# Altium integrated library General.IntLib: 30 symbols
Pins are listed as number, name and electrical type; pins without a type are passive.

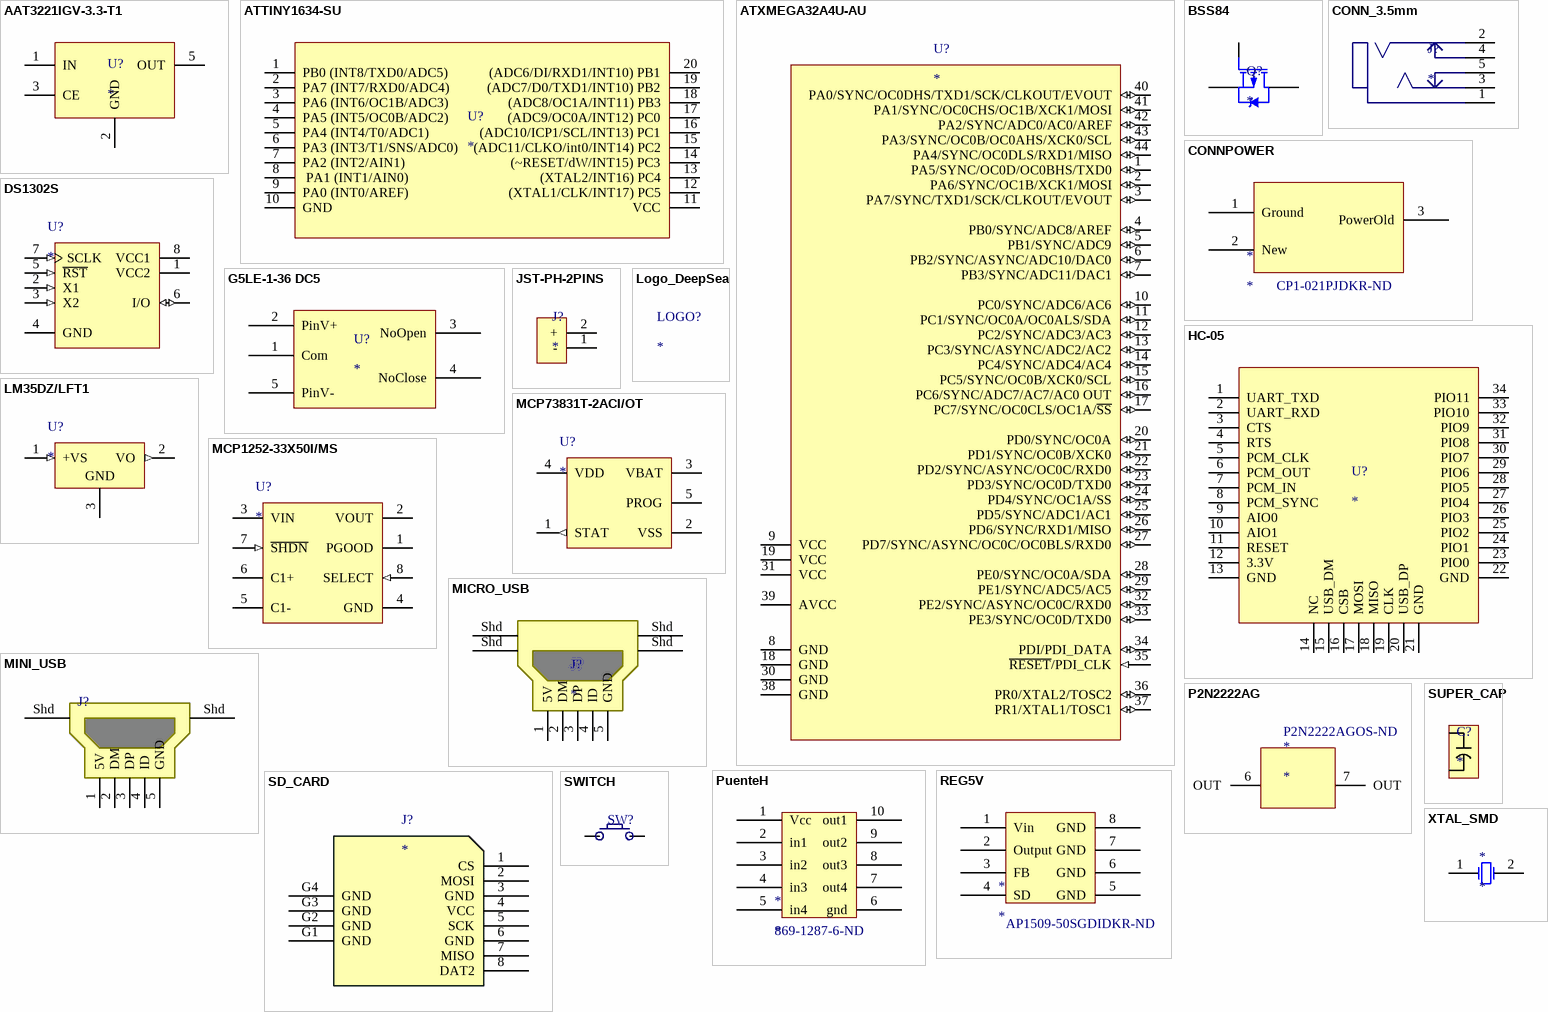
[diagram p0: symbols AAT3221IGV-3.3-T1 to XTAL_SMD]

## AAT3221IGV-3.3-T1
designator U?
IC REG LDO 3.3V 0.15A SOT23-5; Manufacturer: Skyworks Solutions Inc; Manufacturer Part Number: AAT3221IGV-3.3-T1; Regulator Topology: Positive Fixed; Current - Output: 150mA; Voltage - Dropout (Typical): 0.18V @ 100mA; Number of Regulators: 1; Voltage - Input: Up to 5.5V; Supplier 1: Digi-Key; RoHS: RoHS Compliant; Category: Integrated Circuits (ICs); Stock 1: 55137; Pricing 1: 1=0.17, 100=0.15 (USD); Packaging: Cut Tape (CT); Voltage - Output: 3.3V; Current - Limit (Min): -; Operating Temperature: -40°C ~ 85°C; Mounting Type: Surface Mount; Package / Case: SC-74A, SOT-753; Supplier Device Package: SOT-23-5; ComponentLink1URL: http://www.skyworksinc.com/uploads/documents/AAT3221_AAT3222_202251B.pdf; ComponentLink1Description: http://www.skyworksinc.com/uploads/documents/AAT3221_AAT3222_202251B.pdf; Supplier Part Number 1: 863-1491-1-ND
footprint SOT-23-OT5_L (SOT23, 5-Leads, Body 2.9x1.6mm, Pitch 0.95mm, Lead Span 2.7mm, IPC High Density)
footprint SOT-23-OT5_M (SOT23, 5-Leads, Body 2.9x1.6mm, Pitch 0.95mm, Lead Span 2.7mm, IPC Low Density)
footprint SOT-23-OT5_N (SOT23, 5-Leads, Body 2.9x1.6mm, Pitch 0.95mm, Lead Span 2.7mm, IPC Medium Density)
pins: 1 IN, 2 GND, 3 CE, 5 OUT

## ATTINY1634-SU
designator U?
IC MCU 8BIT 16KB FLASH 20SOIC; Manufacturer: Atmel; Manufacturer Part Number: ATTINY1634-SU; Core Processor: AVR; Core Size: 8-Bit; Speed: 12MHz; Connectivity: I²C, SPI, UART/USART, USI; Peripherals: Brown-out Detect/Reset, POR, PWM, WDT; Number of I /O: 18; Program Memory Size: 16KB (16K x 8); EEPROM Size: 256 x 8; RAM Size: 1K x 8; Voltage - Supply (Vcc/Vdd): 1.8 V ~ 5.5 V; Data Converters: A/D 12x10b; Oscillator Type: Internal; Supplier 1: Digi-Key; RoHS: RoHS Compliant; Category: Integrated Circuits (ICs); Stock 1: 0; Pricing 1: 1=1.76, 25=1.12, 100=1 (USD); Packaging: Tube; Program Memory Type: FLASH; Operating Temperature: -40°C ~ 85°C; Package / Case: 20-SOIC (0.295", 7.50mm Width); ComponentLink1URL: http://www.atmel.com/Images/Atmel-8303-8-bit-AVR-Microcontroller-tinyAVR-ATtiny1634_Datasheet_summary.pdf; ComponentLink1Description: http://www.atmel.com/Images/Atmel-8303-8-bit-AVR-Microcontroller-tinyAVR-ATtiny1634_Datasheet_summary.pdf; Supplier Part Number 1: ATTINY1634-SU-ND
footprint SOIC20_L (SOIC, 20-Leads, Body 12,80x7,50mm, Pitch 1,27mm, IPC High Density)
footprint SOIC20_M (SOIC, 20-Leads, Body 12,80x7,50mm, Pitch 1,27mm, IPC Low Density)
footprint SOIC20_N (SOIC, 20-Leads, Body 12,80x7,50mm, Pitch 1,27mm, IPC Medium Density)
pins: 1 PB0 (INT8/TXD0/ADC5) , 2 PA7 (INT7/RXD0/ADC4) , 3 PA6 (INT6/OC1B/ADC3) , 4 PA5 (INT5/OC0B/ADC2) , 5 PA4 (INT4/T0/ADC1), 6 PA3 (INT3/T1/SNS/ADC0) , 7 PA2 (INT2/AIN1) , 8  PA1 (INT1/AIN0), 9 PA0 (INT0/AREF) , 10 GND, 11 VCC, 12 (XTAL1/CLK/INT17) PC5, 13 (XTAL2/INT16) PC4, 14 (~RESET/dW/INT15) PC3, 15 (ADC11/CLKO/int0/INT14) PC2, 16 (ADC10/ICP1/SCL/INT13) PC1, 17 (ADC9/OC0A/INT12) PC0, 18 (ADC8/OC1A/INT11) PB3, 19 (ADC7/D0/TXD1/INT10) PB2, 20 (ADC6/DI/RXD1/INT10) PB1

## ATXMEGA32A4U-AU
designator U?
IC MCU 8BIT 32KB FLASH 44TQFP; Manufacturer: Atmel; Manufacturer Part Number: ATXMEGA32A4U-AU; Core Processor: AVR; Core Size: 8/16-Bit; Speed: 32MHz; Connectivity: I²C, IrDA, SPI, UART/USART, USB; Peripherals: Brown-out Detect/Reset, DMA, POR, PWM, WDT; Number of I /O: 34; Program Memory Size: 32KB (16K x 16); EEPROM Size: 2K x 8; RAM Size: 4K x 8; Voltage - Supply (Vcc/Vdd): 1.6 V ~ 3.6 V; Data Converters: A/D 12x12b, D/A 2x12b; Oscillator Type: Internal; Supplier 1: Digi-Key; RoHS: RoHS Compliant; Category: Integrated Circuits (ICs); Stock 1: 2077; Pricing 1: 1=3.43, 25=2.1548, 100=1.9152 (USD); Packaging: Tray; Program Memory Type: FLASH; Operating Temperature: -40°C ~ 85°C; Package / Case: 44-TQFP; ComponentLink1URL: http://www.atmel.com/Images/Atmel-8387-8-and16-bit-AVR-Microcontroller-XMEGA-A4U_Datasheet.pdf; ComponentLink1Description: http://www.atmel.com/Images/Atmel-8387-8-and16-bit-AVR-Microcontroller-XMEGA-A4U_Datasheet.pdf; Supplier Part Number 1: ATXMEGA32A4U-AU-ND
footprint 44A_L (Thin QFP, 44-Leads, Body 10x10mm, Pitch 0.8mm, IPC High Density)
footprint 44A_M (Thin QFP, 44-Leads, Body 10x10mm, Pitch 0.8mm, IPC Low Density)
footprint 44A_N (Thin QFP, 44-Leads, Body 10x10mm, Pitch 0.8mm, IPC Medium Density)
pins: 1 PA5/SYNC/OC0D/OC0BHS/TXD0 (io), 2 PA6/SYNC/OC1B/XCK1/MOSI (io), 3 PA7/SYNC/TXD1/SCK/CLKOUT/EVOUT (io), 4 PB0/SYNC/ADC8/AREF (io), 5 PB1/SYNC/ADC9 (io), 6 PB2/SYNC/ASYNC/ADC10/DAC0 (io), 7 PB3/SYNC/ADC11/DAC1 (io), 8 GND (power), 9 VCC (power), 10 PC0/SYNC/ADC6/AC6 (io), 11 PC1/SYNC/OC0A/OC0ALS/SDA (io), 12 PC2/SYNC/ADC3/AC3 (io), 13 PC3/SYNC/ASYNC/ADC2/AC2 (io), 14 PC4/SYNC/ADC4/AC4 (io), 15 PC5/SYNC/OC0B/XCK0/SCL (io), 16 PC6/SYNC/ADC7/AC7/AC0 OUT (io), 17 PC7/SYNC/OC0CLS/OC1A/~{SS} (io), 18 GND (power), 19 VCC (power), 20 PD0/SYNC/OC0A (io), 21 PD1/SYNC/OC0B/XCK0 (io), 22 PD2/SYNC/ASYNC/OC0C/RXD0 (io), 23 PD3/SYNC/OC0D/TXD0 (io), 24 PD4/SYNC/OC1A/SS (io), 25 PD5/SYNC/ADC1/AC1 (io), 26 PD6/SYNC/RXD1/MISO (io), 27 PD7/SYNC/ASYNC/OC0C/OC0BLS/RXD0 (io), 28 PE0/SYNC/OC0A/SDA (io), 29 PE1/SYNC/ADC5/AC5 (io), 30 GND (power), 31 VCC (power), 32 PE2/SYNC/ASYNC/OC0C/RXD0 (io), 33 PE3/SYNC/OC0D/TXD0 (io), 34 PDI/PDI_DATA (io), 35 ~{RESET}/PDI_CLK (in), 36 PR0/XTAL2/TOSC2 (io), 37 PR1/XTAL1/TOSC1 (io), 38 GND (power), 39 AVCC (power), 40 PA0/SYNC/OC0DHS/TXD1/SCK/CLKOUT/EVOUT (io), 41 PA1/SYNC/OC0CHS/OC1B/XCK1/MOSI (io), 42 PA2/SYNC/ADC0/AC0/AREF (io), 43 PA3/SYNC/OC0B/OC0AHS/XCK0/SCL (io), 44 PA4/SYNC/OC0DLS/RXD1/MISO (io)

## BSS84
designator Q?
MOSFET P-CH 50V 130MA SOT-23; Manufacturer: Fairchild Semiconductor; Manufacturer Part Number: BSS84; FET Type: MOSFET P-Channel, Metal Oxide; FET Feature: Logic Level Gate; Current - Continuous Drain (Id) @ 25°C: 130mA (Ta); Rds On (Max) @ Id, Vgs: 10 Ohm @ 100mA, 5V; Vgs(th) (Max) @ Id: 2V @ 1mA; Gate Charge (Qg) @ Vgs: 1.3nC @ 5V; Input Capacitance (Ciss) @ Vds: 73pF @ 25V; Power - Max: 360mW; Supplier 1: Digi-Key; RoHS: RoHS Compliant; Category: Discrete Semiconductor Products; Stock 1: 131262; Pricing 1: 1=0.22, 10=0.198, 25=0.1428, 100=0.111, 250=0.06976, 500=0.05944, 1000=0.0405 (USD); Packaging: Cut Tape (CT); Drain to Source Voltage (Vdss): 50V; Mounting Type: Surface Mount; Package / Case: TO-236-3, SC-59, SOT-23-3; Supplier Device Package: SOT-23; ComponentLink1URL: http://www.fairchildsemi.com/ds/BS/BSS84.pdf; ComponentLink1Description: http://www.fairchildsemi.com/ds/BS/BSS84.pdf; Supplier Part Number 1: BSS84CT-ND
footprint SOT-23_L (SOT23, 3-Leads, Body 2.9x1.3mm, Pitch 0.95mm, Lead Span 2.5mm, IPC High Density)
footprint SOT-23_M (SOT23, 3-Leads, Body 2.9x1.3mm, Pitch 0.95mm, Lead Span 2.5mm, IPC Low Density)
footprint SOT-23_N (SOT23, 3-Leads, Body 2.9x1.3mm, Pitch 0.95mm, Lead Span 2.5mm, IPC Medium Density)
pins: 1 G, 2 D, 3 S

## CONN_3.5mm
designator J?
CONN JACK STEREO 3.5MM SMD; Manufacturer: Switchcraft Inc.; Manufacturer Part Number: 35RASMT4BHNTRX; Connector Type: Phone Jack; Gender: Female; Plug/Mating Plug Diameter: 3.50mm (0.141", 1/8", Mini Plug) - Headphone; Number of Positions/Contacts: 3 Conductors, 5 Contacts; Internal Switch(s): Two Switches; Shielding: Unshielded; Color - Contact: Gold; Voltage - Rated: 250VAC; Current Rating: 3A; Supplier 1: Digi-Key; RoHS: RoHS Compliant; Category: Connectors, Interconnects; Stock 1: 3537; Pricing 1: 1=0.65 (USD); Signal Lines: Stereo; Mounting Type: Surface Mount, Right Angle; Termination: Solder; Features: -; Contact Material: Copper Alloy; Contact Material - Plating: Silver; Housing Material: Thermoplastic; Housing Color: Black; Operating Temperature: -25°C ~ 85°C; Packaging: Digi-Reel®; ComponentLink1URL: http://www.switchcraft.com/Drawings/35rasmt4bhntrx_cd.pdf; ComponentLink1Description: http://www.switchcraft.com/Drawings/35rasmt4bhntrx_cd.pdf; Supplier Part Number 1: SC1488-6-ND
footprint JACK_3.5MM
pins: 1, 2, 3, 4, 5

## CONNPOWER
designator *  Supplier Part Number 1: CP1-021PJDKR-ND
Supplier 1: Digi-Key
footprint CONNPOWER
pins: 1 Ground, 2 New, 3 PowerOld

## DS1302S
designator U?
IC TIMEKEEPER T-CHARGE 8-SOIC; Manufacturer: Maxim Integrated; Manufacturer Part Number: DS1302S+T&R; Memory Size: 31B; Time Format: HH:MM:SS (12/24 hr); Date Format: YY-MM-DD-dd; Interface: 3-Wire Serial; Voltage - Supply: 2 V ~ 5.5 V; Supplier 1: Digi-Key; RoHS: RoHS Compliant; Category: Integrated Circuits (ICs); Stock 1: 2031; Pricing 1: 1=3.05, 10=2.882, 25=2.3052, 50=2.19, 100=2.0171, 250=1.91332, 500=1.84416 (USD); Packaging: Cut Tape (CT); Type: Clock/Calendar; Features: Leap Year, NVSRAM, Trickle-Charger; Voltage - Supply, Battery: 2 V ~ 5.5 V; Operating Temperature: 0°C ~ 70°C; Mounting Type: Surface Mount; Package / Case: 8-SOIC (0.209", 5.30mm Width); Supplier Device Package: 8-SO; ComponentLink1URL: http://datasheets.maximintegrated.com/en/ds/DS1302.pdf; ComponentLink1Description: http://datasheets.maximintegrated.com/en/ds/DS1302.pdf; Supplier Part Number 1: DS1302S
footprint SOIC8WA_L (SOP, 8-Leads, Body 5.3x5.3mm, Pitch 1.27mm, IPC High Density)
footprint SOIC8WA_M (SOP, 8-Leads, Body 5.3x5.3mm, Pitch 1.27mm, IPC Low Density)
footprint SOIC8WA_N (SOP, 8-Leads, Body 5.3x5.3mm, Pitch 1.27mm, IPC Medium Density)
pins: 1 VCC2 (power), 2 X1 (in), 3 X2 (in), 4 GND (power), 5 ~{RST} (in), 6 I/O (io), 7 SCLK (in), 8 VCC1 (power)

## G5LE-1-36 DC5
designator U?
RELAY GEN PURPOSE SPDT 10A 5V; Manufacturer: Omron Electronics Inc-EMC Div; Manufacturer Part Number: G5LE-1-36 DC5; Relay Type: General Purpose; Coil Type: Non Latching; Coil Current: 72mA; Coil Voltage: 5VDC; Contact Form: SPDT (1 Form C); Switching Voltage: 250VAC, 125VDC - Max; Turn On Voltage (Max): 3.75 VDC; Turn Off Voltage (Min): 0.5 VDC; Operate Time: 10ms; Release Time: 5ms; Coil Power: 360 mW; Coil Resistance: 70 Ohms; Supplier 1: Digi-Key; RoHS: RoHS Compliant; Category: Relays; Stock 1: 20; Pricing 1: 1=1.45, 10=1.361, 25=1.21, 50=1.1494, 100=1.0889, 250=0.96788, 500=0.90738, 1000=0.84689, 2500=0.83176 (USD); Packaging: Bulk; Contact Rating (Current): 10A; Features: Insulation - Class B, Sealed - Flux Protection; Mounting Type: Through Hole; Termination Style: PC Pin; Contact Material: Silver Tin Oxide (AgSnO); Operating Temperature: -40°C ~ 85°C; ComponentLink1URL: http://www.components.omron.com/components/web/PDFLIB.nsf/0/0293ACA6B03161CD86257538007424DB/$file/G5LE_0813.pdf; ComponentLink1Description: http://www.components.omron.com/components/web/PDFLIB.nsf/0/0293ACA6B03161CD86257538007424DB/$file/G5LE_0813.pdf; Supplier Part Number 1: G5LE-1-36DC5-ND
footprint Relay 5V
pins: 1 Com, 2 PinV+, 3 NoOpen, 4 NoClose, 5 PinV-

## HC-05
designator U?
Bluetooth RS232 module
footprint HC-05
pins: 1 UART_TXD, 2 UART_RXD, 3 CTS, 4 RTS, 5 PCM_CLK, 6 PCM_OUT, 7 PCM_IN, 8 PCM_SYNC, 9 AIO0, 10 AIO1, 11 RESET, 12 3.3V, 13 GND, 14 NC, 15 USB_DM, 16 CSB, 17 MOSI, 18 MISO, 19 CLK, 20 USB_DP, 21 GND, 22 GND, 23 PIO0, 24 PIO1, 25 PIO2, 26 PIO3, 27 PIO4, 28 PIO5, 29 PIO6, 30 PIO7, 31 PIO8, 32 PIO9, 33 PIO10, 34 PIO11

## JST-PH-2PINS
designator J?
CONN HEADER PH SIDE 2POS 2MM SMD; Manufacturer: JST Sales America Inc; Manufacturer Part Number: S2B-PH-SM4-TB(LF)(SN); Connector Type: Header, Shrouded; Number of Positions: 2; Number of Positions Loaded: All; Pitch: 0.079" (2.00mm); Supplier 1: Digi-Key; RoHS: RoHS Compliant; Category: Connectors, Interconnects; Stock 1: 51442; Pricing 1: 1=0.56, 10=0.521, 50=0.4168, 100=0.3994, 250=0.36472, 500=0.34734 (USD); Packaging: Cut Tape (CT); Contact Type: Male Pin; Number of Rows: 1; Row Spacing: -; Contact Mating Length: -; Mounting Type: Surface Mount, Right Angle; Termination: Solder; Fastening Type: -; Features: Solder Retention; Contact Finish: Tin; Contact Finish Thickness: -; Color: Natural; ComponentLink1URL: http://www.jst-mfg.com/product/pdf/eng/ePH.pdf; ComponentLink1Description: http://www.jst-mfg.com/product/pdf/eng/ePH.pdf; Supplier Part Number 1: 455-1749-1-ND
footprint JST-PH-2
pins: 1 -, 2 +

## LM35DZ/LFT1
designator U?
IC SENSOR PREC CENT TEMP TO92-3; Manufacturer: Texas Instruments; Manufacturer Part Number: LM35DZ/LFT1; Sensing Temperature: 0°C ~ 100°C; Output Type: Linear Voltage; Voltage - Supply: 4 V ~ 30 V; Accuracy: ±0.6°C; Supplier 1: Digi-Key; RoHS: RoHS Compliant; Category: Sensors, Transducers; Stock 1: 630; Pricing 1: 1=1.57, 10=1.392, 25=1.2572, 100=1.1001, 250=0.96536, 500=0.8531, 1000=0.6735, 2500=0.6286, 5000=0.59717 (USD); Packaging: Bulk; Package / Case: TO-226-3, TO-92-3 (TO-226AA); Supplier Device Package: TO-92-3; ComponentLink1URL: http://www.ti.com/lit/ds/symlink/lm35.pdf; ComponentLink1Description: http://www.ti.com/lit/ds/symlink/lm35.pdf; Supplier Part Number 1: 296-35151-ND
footprint Z03A (TO, Flat Index; 3 In-Line, Axial Leads; Body Dia. 5mm; Leads 0.55 x 0.50 mm (max))
pins: 1 +VS (in), 2 VO (out), 3 GND (power)

## Logo_DeepSea
designator LOGO?
footprint DeepSea_logo1

## MCP1252-33X50I/MS
designator U?
IC REG MULTI CONFIG 0.12A 8MSOP; Manufacturer: Microchip Technology; Manufacturer Part Number: MCP1252-33X50I/MS; Output Type: Fixed; Number of Outputs: 1; Voltage - Output: 3.3V, 5V; Voltage - Input: 2 V ~ 5.5 V; Frequency - Switching: 650kHz; Current - Output: 120mA; Synchronous Rectifier: No; Supplier 1: Digi-Key; RoHS: RoHS Compliant; Category: Integrated Circuits (ICs); Stock 1: 1865; Pricing 1: 1=1.64, 10=1.37, 25=1.14, 100=1.04 (USD); Packaging: Tube; Type: Step-Down (Buck), Step-Up (Boost), Switched Capacitor (Charge Pump); PWM Type: -; Operating Temperature: -40°C ~ 85°C; Mounting Type: Surface Mount; Package / Case: 8-TSSOP, 8-MSOP (0.118", 3.00mm Width); Supplier Device Package: 8-MSOP; ComponentLink1URL: http://www.microchip.com/mymicrochip/filehandler.aspx?ddocname=en011637; ComponentLink1Description: http://www.microchip.com/mymicrochip/filehandler.aspx?ddocname=en011637; Supplier Part Number 1: MCP1252-33X50I/MS-ND
footprint MSOP-MS8_L (TSOP, 8-Leads, Body 3x3mm, Pitch 0.65mm, IPC High Density)
footprint MSOP-MS8_M (TSOP, 8-Leads, Body 3x3mm, Pitch 0.65mm, IPC Low Density)
footprint MSOP-MS8_N (TSOP, 8-Leads, Body 3x3mm, Pitch 0.65mm, IPC Medium Density)
pins: 1 PGOOD (oc), 2 VOUT (power), 3 VIN (power), 4 GND (power), 5 C1-, 6 C1+, 7 ~{SHDN} (in), 8 SELECT (in)

## MCP73831T-2ACI/OT
designator U?
IC CONTROLLR LI-ION 4.2V SOT23-5; Manufacturer: Microchip Technology; Manufacturer Part Number: MCP73831T-2ACI/OT; Function: Charge Management; Battery Chemistry: Li-Ion, Li-Pol; Voltage - Supply: 3.75 V ~ 6 V; Supplier 1: Digi-Key; RoHS: RoHS Compliant; Category: Integrated Circuits (ICs); Stock 1: 15473; Pricing 1: 1=0.67, 10=0.56, 25=0.47, 100=0.42 (USD); Packaging: Cut Tape (CT); Operating Temperature: -40°C ~ 85°C; Mounting Type: Surface Mount; Package / Case: SC-74A, SOT-753; Supplier Device Package: SOT-23-5; ComponentLink1URL: http://www.microchip.com/mymicrochip/filehandler.aspx?ddocname=en025112; ComponentLink1Description: http://www.microchip.com/mymicrochip/filehandler.aspx?ddocname=en025112; Supplier Part Number 1: MCP73831T-2ACI/OTCT-ND
footprint SOT-23-OT5_M (SOT23, 5-Leads, Body 2.9x1.6mm, Pitch 0.95mm, Lead Span 2.7mm, IPC Low Density)
footprint SOT-23-OT5_L (SOT23, 5-Leads, Body 2.9x1.6mm, Pitch 0.95mm, Lead Span 2.7mm, IPC High Density)
footprint SOT-23-OT5_N (SOT23, 5-Leads, Body 2.9x1.6mm, Pitch 0.95mm, Lead Span 2.7mm, IPC Medium Density)
pins: 1 STAT (out), 2 VSS (power), 3 VBAT (power), 4 VDD (power), 5 PROG

## MICRO_USB
designator J?
CONN USB MICRO B RECPT SMT R/A; Manufacturer: FCI; Manufacturer Part Number: 10118194-0001LF; Connector Type: USB - micro B; Number of Contacts: 5; Gender: Receptacle; Specifications: USB 2.0; Supplier 1: Digi-Key; RoHS: RoHS Compliant; Category: Connectors, Interconnects; Stock 1: 9139; Pricing 1: 1=0.46, 10=0.433, 25=0.3712, 50=0.3156, 100=0.3032, 250=0.27224, 500=0.25988 (USD); Packaging: Cut Tape (CT); Mounting Type: Surface Mount, Right Angle, Horizontal; Features: Shielded, Solder Retention; Ingress Protection: -; ComponentLink1URL: http://portal.fciconnect.com/Comergent//fci/drawing/10118194.pdf; ComponentLink1Description: http://portal.fciconnect.com/Comergent//fci/drawing/10118194.pdf; Supplier Part Number 1: 609-4618-1-ND
footprint USB MICRO
footprint USB_MICRO_SMD
pins: 1 5V (power), 2 DM, 3 DP, 4 ID, 5 GND (power), Shd 6, Shd 7, Shd 6, Shd 7

## MINI_USB
designator J?
CONN RCPT USB MINI B R/A SMD; Manufacturer: Hirose Electric Co Ltd; Manufacturer Part Number: UX60SC-MB-5ST(80); Number of Contacts: 5; Gender: Receptacle; Specifications: USB 2.0; Connector Type: USB - mini B; Supplier 1: Digi-Key; RoHS: RoHS Compliant; Category: Connectors, Interconnects; Stock 1: 43682; Pricing 1: 1=1.05, 10=0.813, 25=0.7576, 50=0.6876, 100=0.62, 250=0.52252, 500=0.495 (USD); Packaging: Cut Tape (CT); Mounting Type: Surface Mount, Right Angle, Horizontal; Features: Solder Retention; Ingress Protection: -; ComponentLink1URL: http://www.hirose.co.jp/cataloge_hp/e24000153.pdf; ComponentLink1Description: http://www.hirose.co.jp/cataloge_hp/e24000153.pdf; Supplier Part Number 1: H11671CT-ND
footprint USB MINI
pins: 1 5V (power), 2 DM, 3 DP, 4 ID, 5 GND (power), Shd 6, Shd 7

## P2N2222AG
designator *  Supplier Part Number 1: P2N2222AGOS-ND
TRANS GP SS NPN LP 40V TO92; Manufacturer: ON Semiconductor; Manufacturer Part Number: P2N2222AG; Current - Collector (Ic) (Max): 600mA; Vce Saturation (Max) @ Ib, Ic: 1V @ 50mA, 500mA; Current - Collector Cutoff (Max): 10nA; DC Current Gain (hFE) (Min) @ Ic, Vce: 100 @ 150mA, 10V; Power - Max: 625mW; Frequency - Transition: 300MHz; Supplier 1: Digi-Key; RoHS: RoHS Compliant; Category: Discrete Semiconductor Products; Stock 1: 22724; Pricing 1: 1=0.42, 10=0.304, 25=0.2368, 100=0.1791, 250=0.12676, 500=0.1014, 1000=0.07774, 2500=0.0676, 5000=0.06084 (USD); Packaging: Bulk; Transistor Type: NPN; Voltage - Collector Emitter Breakdown (Max): 40V; Mounting Type: Through Hole; Package / Case: TO-226-3, TO-92-3 (TO-226AA); Supplier Device Package: TO-92-3; ComponentLink1URL: http://www.onsemi.com/pub_link/Collateral/P2N2222A-D.PDF; ComponentLink1Description: http://www.onsemi.com/pub_link/Collateral/P2N2222A-D.PDF
pins: 6 OUT, 7 OUT

## PuenteH
designator *  Supplier Part Number 1: 869-1287-6-ND
Supplier 1: Digi-Key
footprint SOIP10 (Footprint not found)
pins: 1 Vcc, 2 in1, 3 in2, 4 in3, 5 in4, 6 gnd, 7 out4, 8 out3, 9 out2, 10 out1

## REG5V
designator *  Supplier Part Number 1: AP1509-50SGDIDKR-ND
Supplier 1: Digi-Key
footprint SOP8REG5
pins: 1 Vin, 2 Output, 3 FB, 4 SD, 5 GND, 6 GND, 7 GND, 8 GND

## SD_CARD
designator J?
CONN MEMORY CARD R/A 8POS SMD; Manufacturer: Molex Inc; Manufacturer Part Number: 0472192001; Number of Positions: 8; Connector Type: Connector and Ejector; Insertion, Removal Method: Hinged Lid; Card Type: Secure Digital - microSD™; Supplier 1: Digi-Key; RoHS: RoHS Compliant; Category: Connectors, Interconnects; Stock 1: 10625; Pricing 1: 1=1.11, 10=0.973, 25=0.916, 50=0.8776, 100=0.8395, 250=0.7632 (USD); Packaging: Cut Tape (CT); Ejector Side: -; Mounting Type: Surface Mount, Right Angle; Features: -; Height Above Board: 0.075" (1.90mm); Mounting Feature: Normal, Standard - Top; Contact Finish: Gold; Contact Finish Thickness: 20µin (0.51µm); ComponentLink1URL: http://www.molex.com/pdm_docs/sd/472192001_sd.pdf; ComponentLink1Description: http://www.molex.com/pdm_docs/sd/472192001_sd.pdf; Supplier Part Number 1: WM6698CT-ND
footprint MICRO_SD-SOCKET
pins: 1 CS, 2 MOSI, 3 GND, 4 VCC, 5 SCK, 6 GND, 7 MISO, 8 DAT2, G1 GND, G2 GND, G3 GND, G4 GND

## SUPER_CAP
designator C?
CAP SUPER 0.06F 3.3V COIN SMD; Manufacturer: Taiyo Yuden; Manufacturer Part Number: PAS414HR-VA5R; Capacitance: 60mF; ESR (Equivalent Series Resistance): 80 Ohm; Supplier 1: Digi-Key; RoHS: RoHS Compliant; Category: Capacitors; Stock 1: 22965; Pricing 1: 1=1.18, 10=0.987, 25=0.8504, 50=0.798, 100=0.63, 250=0.525, 500=0.4725, 1000=0.4305 (USD); Packaging: Cut Tape (CT); Voltage - Rated: 3.3V; Tolerance: -; Lifetime @ Temp.: -; Mounting Type: Surface Mount; Package / Case: Coin, Wide Terminals - Same Sides; Lead Spacing: -; Size / Dimension: 0.189" Dia (4.80mm); Height - Seated (Max): 0.061" (1.55mm); Operating Temperature: -20°C ~ 60°C; ComponentLink1URL: http://www.yuden.co.jp/productdata/catalog/en/capacitor01_e.pdf; ComponentLink1Description: http://www.yuden.co.jp/productdata/catalog/en/capacitor01_e.pdf; Supplier Part Number 1: 587-2158-1-ND
footprint 414-VA5R (super cap footprint)
pins: 1 *, 2 *

## SWITCH
designator SW?
SWITCH TACTILE SPST-NO 0.05A 12V; Manufacturer: TE Connectivity; Manufacturer Part Number: FSM4JSMATR; Switch Function: Off-Mom; Contact Rating @ Voltage: 0.05A @ 12VDC; Actuator Type: Standard; Actuator Height off PCB, from Pins: 5.00mm; Actuator Orientation: Top Actuated; Outline: 6.00mm x 6.00mm; Illumination: Non-Illuminated; Operating Force: 160gf; Actuator Material: Polyphenylene Sulfide (PPS); Switch Travel: 0.25mm; Mechanical Life: 100,000 Cycles; Supplier 1: Digi-Key; RoHS: RoHS Compliant; Category: Switches; Stock 1: 33712; Pricing 1: 1=0.23, 10=0.223, 25=0.2136, 50=0.2038, 100=0.1843, 250=0.1698, 500=0.15524 (USD); Packaging: Cut Tape (CT); Circuit: SPST-NO; Mounting Type: Surface Mount; Termination Style: Gull Wing; Illumination Voltage (Nominal): -; Illumination Type, Color: -; Ingress Protection: -; Features: -; Operating Temperature: -35°C ~ 85°C; ComponentLink1URL: http://www.te.com/commerce/DocumentDelivery/DDEController?Action=srchrtrv&DocNm=2-1437565-7&DocType=Customer+Drawing&DocLang=English; ComponentLink1Description: http://www.te.com/commerce/DocumentDelivery/DDEController?Action=srchrtrv&DocNm=2-1437565-7&DocType=Customer+Drawing&DocLang=English; Supplier Part Number 1: 450-1759-1-ND
footprint swich_foot
pins: 1 *, 2 *

## XTAL_SMD
designator *
footprint XTAL_SMD-3 (Xtal smd for cilindrical crystal)
pins: 1 OSC1, 2 OSC2


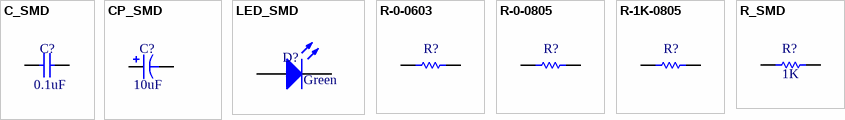
[diagram p1: symbols C_SMD to R_SMD]

## C_SMD
designator C?, comment 0.1uF
Value: 0.1uF
footprint C0603_L (Chip Capacitor, 2-Leads, Body 1,60x0,80mm, IPC High Density)
footprint C0603_M (Chip Capacitor, 2-Leads, Body 1,60x0,80mm, IPC Low Density)
footprint C0603_N (Chip Capacitor, 2-Leads, Body 1,60x0,80mm, IPC Medium Density)
footprint C0805_L (Chip Capacitor, 2-Leads, Body 2,00x1,25mm, IPC High Density)
footprint C0805_M (Chip Capacitor, 2-Leads, Body 2,00x1,25mm, IPC Low Density)
footprint C0805_N (Chip Capacitor, 2-Leads, Body 2,00x1,25mm, IPC Medium Density)
footprint C1206_L (Chip Capacitor, 2-Leads, Body 3,20x1,60mm, IPC High Density)
footprint C1206_M (Chip Capacitor, 2-Leads, Body 3,20x1,60mm, IPC Low Density)
footprint C1206_N (Chip Capacitor, 2-Leads, Body 3,20x1,60mm, IPC Medium Density)
pins: 1, 2

## CP_SMD
designator C?, comment 10uF
Value: 10uF
footprint C_TANT_A_3216_L (Molded Capacitor, 2-Leads, Body 3,20x1,60mm, IPC High Density)
footprint C_TANT_A_3216_M (Molded Capacitor, 2-Leads, Body 3,20x1,60mm, IPC Low Density)
footprint C_TANT_A_3216_N (Molded Capacitor, 2-Leads, Body 3,20x1,60mm, IPC Medium Density)
pins: 1, 2

## LED_SMD
designator D?, comment Green
Color: Green
footprint R0603_L (Chip Resistor, 2-Leads, Body 1,60x0,85mm, IPC High Density)
footprint R0603_M (Chip Resistor, 2-Leads, Body 1,60x0,85mm, IPC Low Density)
footprint R0603_N (Chip Resistor, 2-Leads, Body 1,60x0,85mm, IPC Medium Density)
footprint R0805_L (Chip Resistor, 2-Leads, Body 2,00x1,25mm, IPC High Density)
footprint R0805_M (Chip Resistor, 2-Leads, Body 2,00x1,25mm, IPC Low Density)
footprint R0805_N (Chip Resistor, 2-Leads, Body 2,00x1,25mm, IPC Medium Density)
footprint R1206_L (Chip Resistor, 2-Leads, Body 3,13x1,55mm, IPC High Density)
footprint R1206_M (Chip Resistor, 2-Leads, Body 3,13x1,60mm, IPC Low Density)
footprint R1206_N (Chip Resistor, 2-Leads, Body 3,13x1,55mm, IPC Medium Density)
pins: 1 A, 2 K

## R-0-0603
designator R?
RES 0.0 OHM 1/10W JUMP 0603; Manufacturer: Samsung Electro-Mechanics America, Inc; Manufacturer Part Number: RC1608J000CS; Tolerance: Jumper; Power (Watts): 0.1W, 1/10W; Resistance (Ohms): 0.0; Supplier 1: Digi-Key; RoHS: RoHS Compliant; Category: Resistors; Stock 1: 10000; Pricing 1: 5000=0.00078, 10000=0.00068, 25000=0.00059, 50000=0.00055, 125000=0.00053 (USD); Packaging: Tape & Reel (TR); Composition: Thick Film; Features: -; Temperature Coefficient: -; Package / Case: 0603 (1608 Metric); Supplier Device Package: 0603 (1608 Metric); Size / Dimension: 0.063" L x 0.031" W (1.60mm x 0.80mm); Height: 0.022" (0.55mm); Number of Terminations: 2; ComponentLink1URL: http://www.samsungsem.com/servlet/FileDownload?filename=productcatalog/pdf/Chip_Resistor.pdf; ComponentLink1Description: http://www.samsungsem.com/servlet/FileDownload?filename=productcatalog/pdf/Chip_Resistor.pdf; Supplier Part Number 1: 1276-3510-2-ND
footprint R0603_L (Chip Resistor, 2-Leads, Body 1,60x0,85mm, IPC High Density)
footprint R0603_M (Chip Resistor, 2-Leads, Body 1,60x0,85mm, IPC Low Density)
footprint R0603_N (Chip Resistor, 2-Leads, Body 1,60x0,85mm, IPC Medium Density)
pins: 1, 2

## R-0-0805
designator R?
RES 0.0 OHM 1/8W JUMP 0805 SMD; Manufacturer: Panasonic Electronic Components; Manufacturer Part Number: ERJ-6GEY0R00V; Tolerance: Jumper; Power (Watts): 0.125W, 1/8W; Resistance (Ohms): 0.0; Supplier 1: Digi-Key; RoHS: RoHS Compliant; Category: Resistors; Stock 1: 2420000; Pricing 1: 5000=0.00323, 10000=0.00281, 25000=0.00247, 50000=0.00226, 125000=0.00222 (USD); Packaging: Tape & Reel (TR); Composition: Thick Film; Features: -; Temperature Coefficient: -; Package / Case: 0805 (2012 Metric); Supplier Device Package: 0805; Size / Dimension: 0.079" L x 0.049" W (2.00mm x 1.25mm); Height: 0.028" (0.70mm); Number of Terminations: 2; ComponentLink1URL: http://industrial.panasonic.com/www-cgi/jvcr13pz.cgi?E+PZ+3+AOA0001+ERJ6GEY0R00V+7+WW; ComponentLink1Description: http://industrial.panasonic.com/www-cgi/jvcr13pz.cgi?E+PZ+3+AOA0001+ERJ6GEY0R00V+7+WW; Supplier Part Number 1: P0.0ATR-ND
footprint R0805_L (Chip Resistor, 2-Leads, Body 2,00x1,25mm, IPC High Density)
footprint R0805_M (Chip Resistor, 2-Leads, Body 2,00x1,25mm, IPC Low Density)
footprint R0805_N (Chip Resistor, 2-Leads, Body 2,00x1,25mm, IPC Medium Density)
pins: 1, 2

## R-1K-0805
designator R?
RES 1K OHM 1/8W 5% 0805 SMD; Manufacturer: Panasonic Electronic Components; Manufacturer Part Number: ERJ-6GEYJ102V; Power (Watts): 0.125W, 1/8W; Temperature Coefficient: ±200ppm/°C; Supplier 1: Digi-Key; RoHS: RoHS Compliant; Category: Resistors; Stock 1: 1230000; Pricing 1: 5000=0.00323, 10000=0.00281, 25000=0.00247, 50000=0.00226, 125000=0.00222 (USD); Packaging: Tape & Reel (TR); Tolerance: ±5%; Composition: Thick Film; Features: -; Package / Case: 0805 (2012 Metric); Supplier Device Package: 0805; Size / Dimension: 0.079" L x 0.049" W (2.00mm x 1.25mm); Height: 0.028" (0.70mm); Number of Terminations: 2; ComponentLink1URL: http://industrial.panasonic.com/www-cgi/jvcr13pz.cgi?E+PZ+3+AOA0001+ERJ6GEYJ102V+7+WW; ComponentLink1Description: http://industrial.panasonic.com/www-cgi/jvcr13pz.cgi?E+PZ+3+AOA0001+ERJ6GEYJ102V+7+WW; Supplier Part Number 1: P1.0KATR-ND; Resistance (Ohms): 1k
footprint R0805_L (Chip Resistor, 2-Leads, Body 2,00x1,25mm, IPC High Density)
footprint R0805_M (Chip Resistor, 2-Leads, Body 2,00x1,25mm, IPC Low Density)
footprint R0805_N (Chip Resistor, 2-Leads, Body 2,00x1,25mm, IPC Medium Density)
pins: 1, 2

## R_SMD
designator R?  value 1K  (hidden comment: *)
footprint R0603_L (Chip Resistor, 2-Leads, Body 1,60x0,85mm, IPC High Density)
footprint R0603_M (Chip Resistor, 2-Leads, Body 1,60x0,85mm, IPC Low Density)
footprint R0603_N (Chip Resistor, 2-Leads, Body 1,60x0,85mm, IPC Medium Density)
footprint R0805_L (Chip Resistor, 2-Leads, Body 2,00x1,25mm, IPC High Density)
footprint R0805_M (Chip Resistor, 2-Leads, Body 2,00x1,25mm, IPC Low Density)
footprint R0805_N (Chip Resistor, 2-Leads, Body 2,00x1,25mm, IPC Medium Density)
footprint R1206_L (Chip Resistor, 2-Leads, Body 3,13x1,55mm, IPC High Density)
footprint R1206_M (Chip Resistor, 2-Leads, Body 3,13x1,60mm, IPC Low Density)
footprint R1206_N (Chip Resistor, 2-Leads, Body 3,13x1,55mm, IPC Medium Density)
pins: 1, 2